# EAGLE library part PCF8574TSSOP (library PFC8574Tssop)
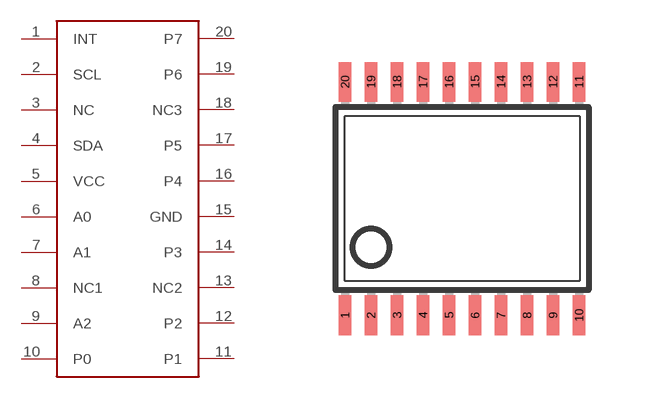
[diagram p0: symbol with the pads of TSSOP20; footprint TSSOP20]

Designator prefix -

## PCF8574TSSOP  [TSSOP20]
1  INT
2  SCL
3  NC
4  SDA
5  VCC
6  A0
7  A1
8  NC1
9  A2
10  P0
11  P1
12  P2
13  NC2
14  P3
15  GND
16  P4
17  P5
18  NC3
19  P6
20  P7

## Footprint TSSOP20 (pad centres in mm)
Thin Shrink Small Outline Plastic 20 MAX3223-MAX3243.pdf
smd 0.305 x 0.991: 1 -2.925,-2.918; 2 -2.275,-2.918; 3 -1.625,-2.918; 4 -0.975,-2.918; 5 -0.325,-2.918; 6 0.325,-2.918; 7 0.975,-2.918; 8 1.625,-2.918; 9 2.275,-2.918; 10 2.925,-2.918; 11 2.925,2.918; 12 2.275,2.918; 13 1.625,2.918; 14 0.975,2.918; 15 0.325,2.918; 16 -0.325,2.918; 17 -0.975,2.918; 18 -1.625,2.918; 19 -2.275,2.918; 20 -2.925,2.918